# Altium footprint library C1210.PcbLib: 1 footprints
Each footprint in its own frame and in the unit in brackets; x right, y up, seen from the top. Pads: shape width x height; smd on the part's side, far side on the other; paste and mask are expansions set on the pad; w line width, h text height; cw(c..) or ccw(c..) is an arc to the next point about the centre after c.
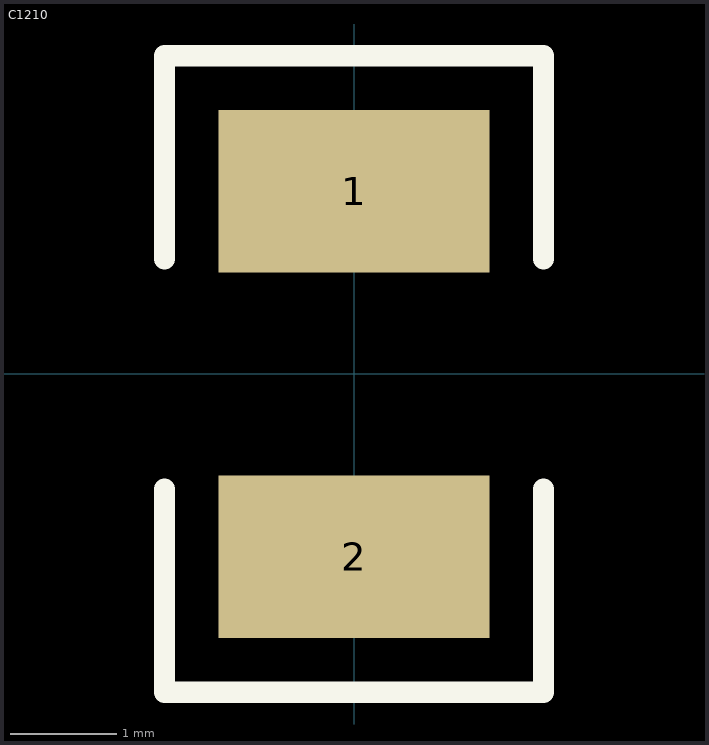
[diagram p0: the footprint, top view; thin cyan lines are the x and y axes]

## C1210 [mil]
pads (2):
  rect 100x60 smd: 1(0,67.5) 2(0,-67.5)
Top Overlay:
  lines w7.87: -70,-42.5 -70,-117.5 70,-117.5 70,-42.5 ; -70,42.5 -70,117.5 70,117.5 70,42.5
3D body: height 67.1, standoff 0, extent -49,-78.75 49,78.75